# Altium footprint library SamacSys.PcbLib: 10 footprints
Each footprint in its own frame and in the unit in brackets; x right, y up, seen from the top. Pads: shape width x height; smd on the part's side, far side on the other; paste and mask are expansions set on the pad; w line width, h text height; cw(c..) or ccw(c..) is an arc to the next point about the centre after c.
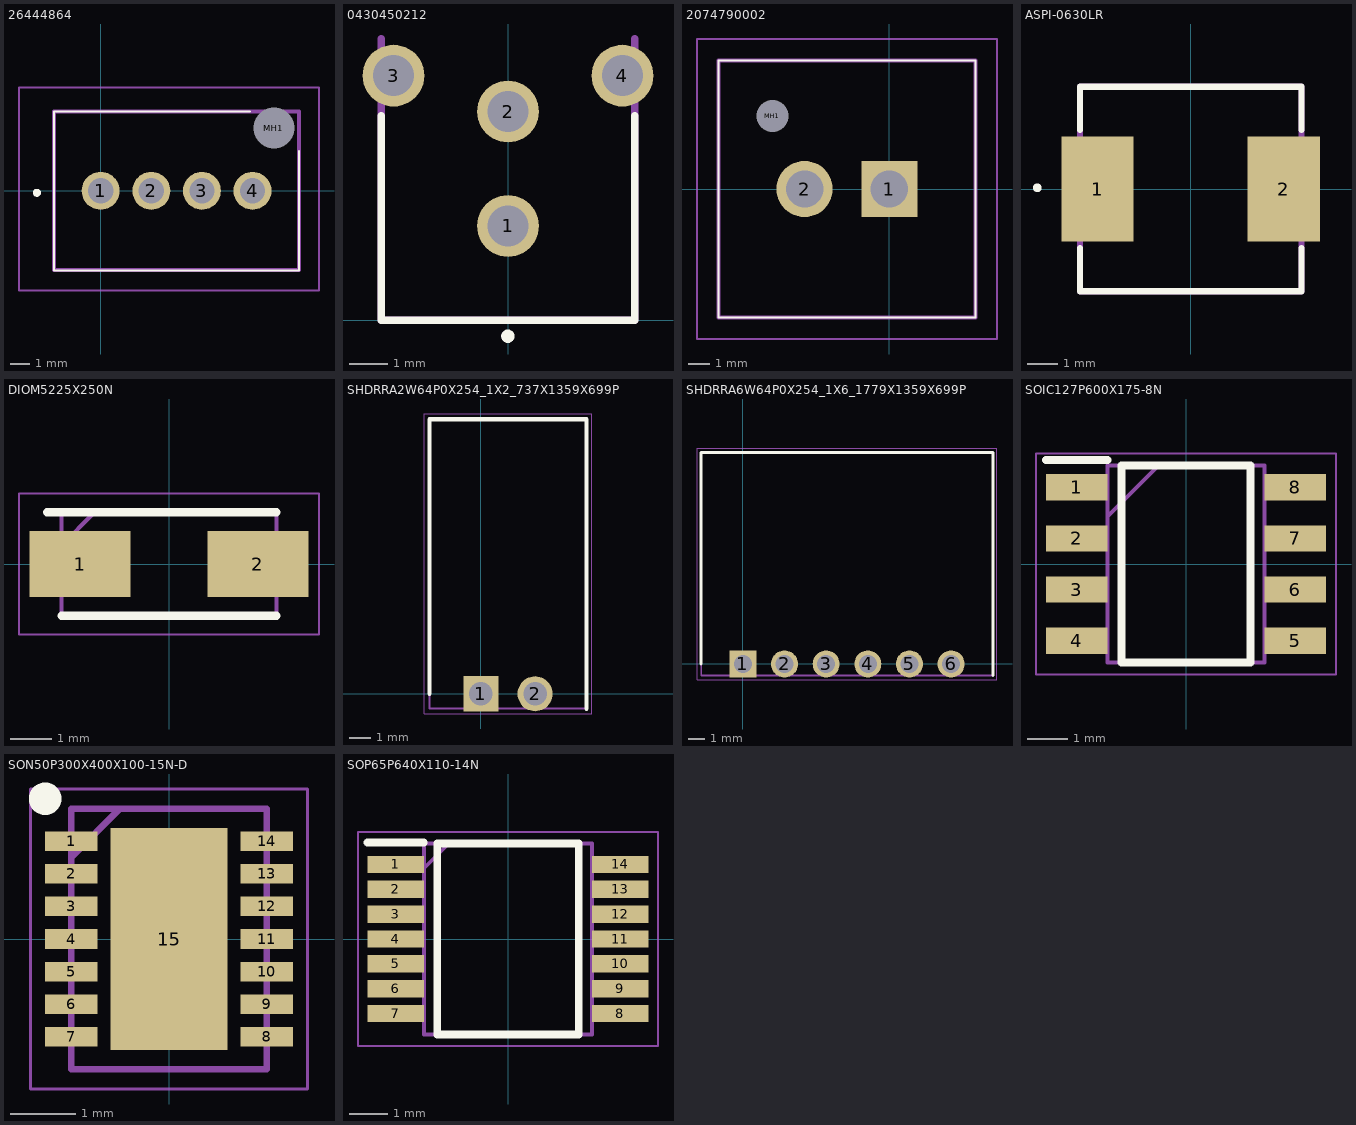
[diagram p0: the footprints below, top view; thin cyan lines are the x and y axes]

## 26444864 [mm]
pads (5):
  round 1.905 hole 1.27: 1(0,0) 2(2.54,0) 3(5.08,0) 4(7.62,0)
  round 1.028 hole 2.057 unplated: MH1(8.687,3.15)
Top Overlay:
  lines w0.1: 7.5,3.975 -2.335,3.975 -2.335,-4 9.955,-4 9.955,2
  lines w0.2: -3.2,-0.2 cw(c-3.2,-0.1) -3.2,0 cw(c-3.2,-0.1) -3.2,-0.2
Mechanical 13:
  lines w0.2: -2.335,-3.975 -2.335,3.975 9.955,3.975 9.955,-3.975 -2.335,-3.975
Mechanical 15:
  lines w0.1: -4.1,-5 -4.1,5.178 10.955,5.178 10.955,-5 -4.1,-5
3D body "2-644486-4.stp": height 10.21, standoff -3.76, extent -2.257,-3.605 10.037,4.345

## 0430450212 [mm]
pads (4):
  round 1.62 hole 1.07: 1(0,2.47) 2(0,5.47) 3(-3,6.41) 4(3,6.41)
Top Overlay:
  circle w0.2: c-0.004,-0.418 r0.074
  lines w0.2: -3.325,5.357 -3.325,0 3.325,0 3.325,5.357
Mechanical 13:
  lines w0.2: -3.325,7.37 -3.325,0 3.325,0 3.325,7.37
3D body "0430450212.stp": height 9.12, standoff -3.97, extent -3.575,0.06 3.575,8.83

## 2074790002 [mm]
pads (3):
  rect 2.625x2.625 hole 1.75: 1(0,0)
  round 2.625 hole 1.75: 2(-3.96,0)
  round 0.75 hole 1.5 unplated: MH1(-5.46,3.4)
Top Overlay:
  lines w0.1: -7.975,-6 -7.975,6 4.015,6 4.015,-6 -7.975,-6
Mechanical 13:
  lines w0.2: -7.975,-6 -7.975,6 4.015,6 4.015,-6 -7.975,-6
Mechanical 15:
  lines w0.1: -8.975,-7 -8.975,7 5.015,7 5.015,-7 -8.975,-7
3D body "207479-0002.stp": height 14.2, standoff -5, extent -7.975,-6 4.015,6

## ASPI-0630LR [mm]
pads (2):
  rect 2.35x3.4 smd: 1(-3.025,0) 2(3.025,0)
Top Overlay:
  circle w0.2: c-4.982,0.038 r0.043
  lines w0.2: -3.6,-3.325 3.6,-3.325 ; -3.6,-3.269 -3.6,-1.918 ; -3.6,1.918 -3.6,3.325 3.6,3.325 3.6,1.918 ; 3.6,-3.269 3.6,-1.918
Mechanical 13:
  lines w0.2: -3.6,-3.325 3.6,-3.325 3.6,3.325 -3.6,3.325 -3.6,-3.325

## DIOM5225X250N [mm]
pads (2):
  rect 2.45x1.6 smd: 1(-2.15,0) 2(2.15,0)
Top Overlay:
  lines w0.2: -2.95,1.25 2.6,1.25 ; -2.6,-1.25 2.6,-1.25
Mechanical 13:
  lines w0.1: -2.6,0.45 -1.8,1.25 ; -2.6,-1.25 -2.6,1.25 2.6,1.25 2.6,-1.25 -2.6,-1.25
Mechanical 15:
  lines w0.05: -3.625,-1.7 -3.625,1.7 3.625,1.7 3.625,-1.7 -3.625,-1.7
3D body "CDBA5150-HF.stp": height 2.5, standoff 0, extent -2.6,-1.25 2.6,1.25

## SHDRRA2W64P0X254_1X2_737X1359X699P [mm]
pads (2):
  rect 1.65x1.65 hole 1.1: 1(0,0)
  round 1.65 hole 1.1: 2(2.54,0)
Top Overlay:
  lines w0.2: -2.415,0 -2.415,12.89 4.955,12.89 4.955,-0.7
Mechanical 13:
  lines w0.1: -2.415,-0.7 4.955,-0.7 4.955,12.89 -2.415,12.89 -2.415,-0.7
Mechanical 15:
  lines w0.05: -2.665,-0.95 -2.665,13.14 5.205,13.14 5.205,-0.95 -2.665,-0.95
3D body "0705530036.stp": height 6.99, standoff -3.3, extent -2.415,-0.7 4.955,12.89

## SHDRRA6W64P0X254_1X6_1779X1359X699P [mm]
pads (6):
  rect 1.65x1.65 hole 1.1: 1(0,0)
  round 1.65 hole 1.1: 2(2.54,0) 3(5.08,0) 4(7.62,0) 5(10.16,0) 6(12.7,0)
Top Overlay:
  lines w0.2: -2.545,0 -2.545,12.89 15.245,12.89 15.245,-0.7
Mechanical 13:
  lines w0.1: -2.545,-0.7 15.245,-0.7 15.245,12.89 -2.545,12.89 -2.545,-0.7
Mechanical 15:
  lines w0.05: -2.795,-0.95 -2.795,13.14 15.495,13.14 15.495,-0.95 -2.795,-0.95
3D body "0705530005.stp": height 6.99, standoff -3.3, extent -2.545,-0.7 15.245,12.89

## SOIC127P600X175-8N [mm]
pads (8):
  rect 1.525x0.65 smd: 1(-2.712,1.905) 2(-2.712,0.635) 3(-2.712,-0.635) 4(-2.712,-1.905) 5(2.712,-1.905) 6(2.712,-0.635) 7(2.712,0.635) 8(2.712,1.905)
Top Overlay:
  lines w0.2: -3.475,2.58 -1.95,2.58 ; -1.6,-2.45 -1.6,2.45 1.6,2.45 1.6,-2.45 -1.6,-2.45
Mechanical 13:
  lines w0.1: -1.95,1.18 -0.68,2.45 ; -1.95,-2.45 -1.95,2.45 1.95,2.45 1.95,-2.45 -1.95,-2.45
Mechanical 15:
  lines w0.05: -3.725,-2.75 -3.725,2.75 3.725,2.75 3.725,-2.75 -3.725,-2.75
3D body "NE555DR.stp": height 1.75, standoff 0, extent -3,-2.45 3,2.45

## SON50P300X400X100-15N-D [mm]
pads (15):
  rect 0.8x0.3 smd: 1(-1.5,1.5) 2(-1.5,1) 3(-1.5,0.5) 4(-1.5,0) 5(-1.5,-0.5) 6(-1.5,-1) 7(-1.5,-1.5) 8(1.5,-1.5) 9(1.5,-1) 10(1.5,-0.5) 11(1.5,0) 12(1.5,0.5) 13(1.5,1) 14(1.5,1.5)
  rect 1.8x3.4 smd: 15(0,0)
Top Overlay:
  circle w0.25: c-1.9,2.15 r0.125
Mechanical 13:
  lines w0.1: -1.5,1.25 -0.75,2 ; -1.5,-2 1.5,-2 1.5,2 -1.5,2 -1.5,-2
Mechanical 15:
  lines w0.05: -2.125,-2.3 2.125,-2.3 2.125,2.3 -2.125,2.3 -2.125,-2.3
3D body "MP3426DL-LF-Z.stp": height 1, standoff 0, extent -1.55,-2 1.55,2

## SOP65P640X110-14N [mm]
pads (14):
  rect 1.475x0.45 smd: 1(-2.938,1.95) 2(-2.938,1.3) 3(-2.938,0.65) 4(-2.938,0) 5(-2.938,-0.65) 6(-2.938,-1.3) 7(-2.938,-1.95) 8(2.938,-1.95) 9(2.938,-1.3) 10(2.938,-0.65) 11(2.938,0) 12(2.938,0.65) 13(2.938,1.3) 14(2.938,1.95)
Top Overlay:
  lines w0.2: -3.675,2.525 -2.2,2.525 ; -1.85,-2.5 -1.85,2.5 1.85,2.5 1.85,-2.5 -1.85,-2.5
Mechanical 13:
  lines w0.1: -2.2,1.85 -1.55,2.5 ; -2.2,-2.5 -2.2,2.5 2.2,2.5 2.2,-2.5 -2.2,-2.5
Mechanical 15:
  lines w0.05: -3.925,-2.8 -3.925,2.8 3.925,2.8 3.925,-2.8 -3.925,-2.8
3D body "NXB0104PWJ.stp": height 1.1, standoff 0, extent -3.2,-2.5 3.2,2.5